# Altium schematic symbol library Cell Protection Board.SchLib: 2 symbols
Pins are listed as number, name and electrical type; pins without a type are passive.

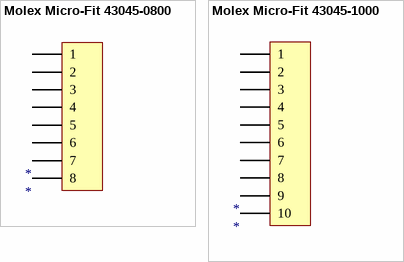
[diagram p0: symbols Molex Micro-Fit 43045-0800 to Molex Micro-Fit 43045-1000]

## Molex Micro-Fit 43045-0800
designator *
8-Pin Right-Angle Locking Male Header; Digi-Key Part Number: WM1816-ND
footprint Molex Micro-Fit 43045-0800 (8-Pin Right-Angle Locking Male Header)
pins: 1, 2, 3, 4, 5, 6, 7, 8

## Molex Micro-Fit 43045-1000
designator *
10-Pin Right-Angle Locking Male Header; Digi-Key Part Number: WM1817-ND
footprint Molex Micro-Fit 43045-1000 (10-Pin Right-Angle Locking Male Header)
pins: 1, 2, 3, 4, 5, 6, 7, 8, 9, 10